# EAGLE library part DIP-6 (library jt-switches)
6-pin DIP switches
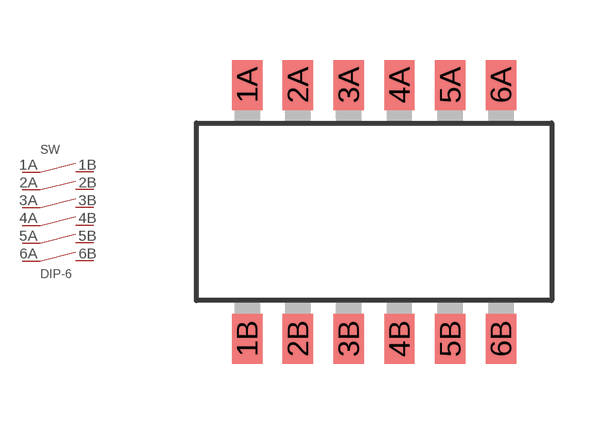
[diagram p2: symbol with the pads of OMRON-DIP-6; footprint OMRON-DIP-6]

Designator prefix SW

## DIP-6A6H  [OMRON-DIP-6]
1A  1A
1B  1B
2A  2A
2B  2B
3A  3A
3B  3B
4A  4A
4B  4B
5A  5A
5B  5B
6A  6A
6B  6B

## Footprint OMRON-DIP-6 (pad centres in mm)
Omron low-profile, half-width DIP switch
smd 0.76 x 1.25: 1A -3.175,3.175; 1B -3.175,-3.175; 2A -1.905,3.175; 2B -1.905,-3.175; 3A -0.635,3.175; 3B -0.635,-3.175; 4A 0.635,3.175; 4B 0.635,-3.175; 5A 1.905,3.175; 5B 1.905,-3.175; 6A 3.175,3.175; 6B 3.175,-3.175